# Altium footprint library SOT-143.PcbLib: 1 footprints
Each footprint in its own frame and in the unit in brackets; x right, y up, seen from the top. Pads: shape width x height; smd on the part's side, far side on the other; paste and mask are expansions set on the pad; w line width, h text height; cw(c..) or ccw(c..) is an arc to the next point about the centre after c.
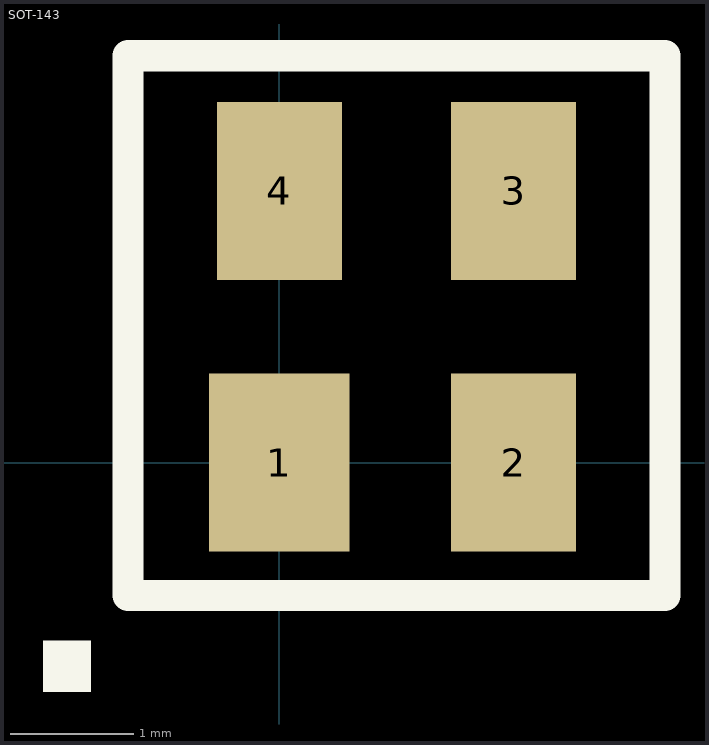
[diagram p0: the footprint, top view; thin cyan lines are the x and y axes]

## SOT-143 [mil]
pads (4):
  rect 45x57 smd: 1(0,0)
  rect 40x57 smd: 2(75,0) 3(75,87) 4(0,87)
TopOverlay:
  rectangle: -75.62,-73.47 -60.3,-56.95
  lines w10: 123.46,-36.22 123.46,-42.53 ; 123.46,-42.53 -48.39,-42.53 -48.39,130.22 123.46,130.22 123.46,-42.53